# Altium schematic symbol library Discretes.SchLib: 5 symbols
Pins are listed as number, name and electrical type; pins without a type are passive.

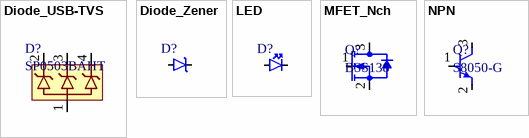
[diagram p0: symbols Diode_USB-TVS to NPN]

## Diode_USB-TVS
designator D?, comment SP0503BAHT
3 channel TVS diode - SP0503BAHT; Supplier 1: Digi-Key; Supplier Part Number 1: F2715CT-ND
footprint SOT-143
pins: 1, 2, 3, 4

## Diode_Zener
designator D?  (value not drawn)
Generic Zener diode symbol
pins: 1, 1

## LED
designator D?, comment COLOR  (value not drawn)
Generic LED symbol
pins: 1, 2

## MFET_Nch
designator Q?, comment BSS138
MOSFET N-CH 50V 220MA SOT-23; Supplier 1: Digi-Key; Supplier Part Number 1: BSS138DKR-ND
footprint SOT-23-3 (SOT23, 3-Leads, Body 3.12x1.5mm, Pitch 0.95mm)
pins: 1 G, 2 S, 3 D

## NPN
designator Q?, comment S8050-G
NPN Transistor 1.5A 40V SOT-23 R - S8050-G; Supplier 1: Digi-Key; Supplier Part Number 1: 641-1790-1-ND
footprint SOT-23-3 (SOT23, 3-Leads, Body 3.12x1.5mm, Pitch 0.95mm)
pins: 1 B, 2 E, 3 C